# EAGLE library part XUNPU-MICROSD-SOCKET (library sb2030_logger)
Micro-SD push-push card holder; LCSC C266620, Manufacturer TF-115 (XunPu)
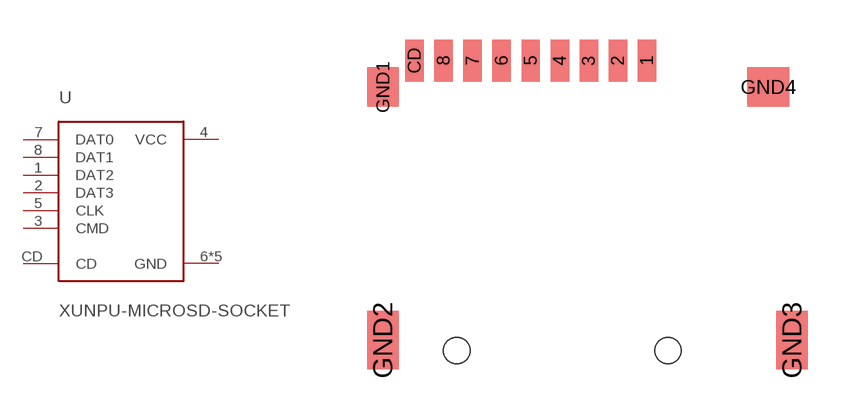
[diagram p8: symbol with the pads of XUNPU-MICROSD-SOCKET; footprint XUNPU-MICROSD-SOCKET]

Designator prefix -

## XUNPU-MICROSD-SOCKET  [XUNPU-MICROSD-SOCKET]
1  DAT2
2  DAT3
3  CMD
4  VCC
5  CLK
6  GND
7  DAT0
8  DAT1
CD  CD
GND1  GND
GND2  GND
GND3  GND
GND4  GND

## Footprint XUNPU-MICROSD-SOCKET (pad centres in mm)
smd 0.7 x 1.6: 1 2.25,7.475; 2 1.15,7.475; 3 0.05,7.475; 4 -1.05,7.475; 5 -2.15,7.475; 6 -3.25,7.475; 7 -4.35,7.475; 8 -5.45,7.475; CD -6.55,7.475
smd 1.2 x 1.5: GND1 -7.75,6.475
smd 1.2 x 2.2: GND2 -7.75,-3.125; GND3 7.75,-3.125
smd 1.6 x 1.5: GND4 6.85,6.475
hole 1 at -4.95,-3.525
hole 1 at 3.05,-3.525